# Altium footprint library PART_NUMBER_SMALL-STD.PcbLib: 1 footprints
Each footprint in its own frame and in the unit in brackets; x right, y up, seen from the top. Pads: shape width x height; smd on the part's side, far side on the other; paste and mask are expansions set on the pad; w line width, h text height; cw(c..) or ccw(c..) is an arc to the next point about the centre after c.
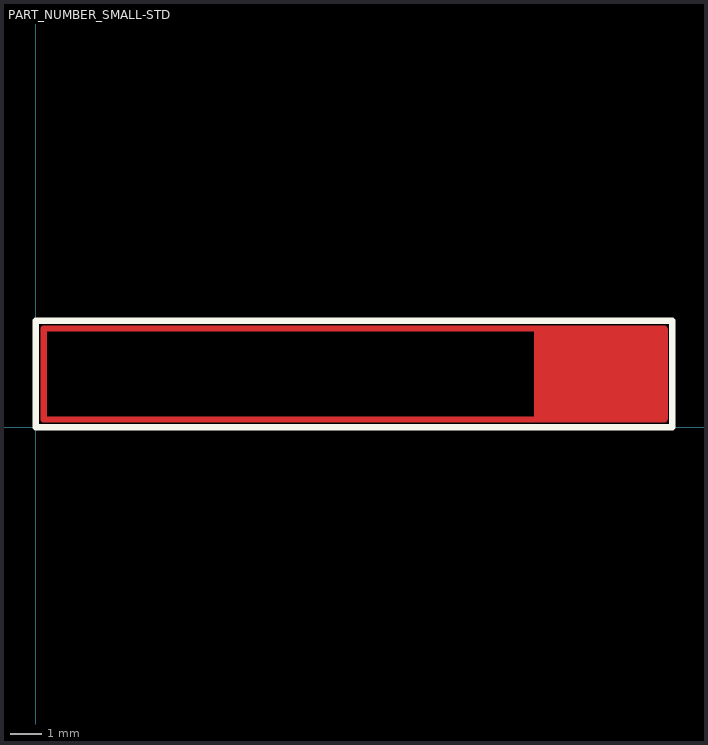
[diagram p0: the footprint, top view; thin cyan lines are the x and y axes]

## PART_NUMBER_SMALL-STD [mm]
Top Layer:
  rectangle: 16.002,0.254 20.32,3.175
  lines w0.2: 20.193,0.254 0.254,0.254 0.254,3.175 19.431,3.175 20.193,3.175
  text ".BoardPartNumber" at 1.143,1.016 h2
Top Overlay:
  lines w0.2: 0,0 20.447,0 20.447,3.429 0,3.429 0,0
  text ".BoardPartNumber" at 1.143,1.016 h2
Top Solder:
  rectangle: 16.002,0.127 20.32,3.175